# Altium footprint library PCB1.PcbLib: 50 footprints (part 2 of 4)
Each footprint in its own frame and in the unit in brackets; x right, y up, seen from the top. Pads: shape width x height; smd on the part's side, far side on the other; paste and mask are expansions set on the pad; w line width, h text height; cw(c..) or ccw(c..) is an arc to the next point about the centre after c.
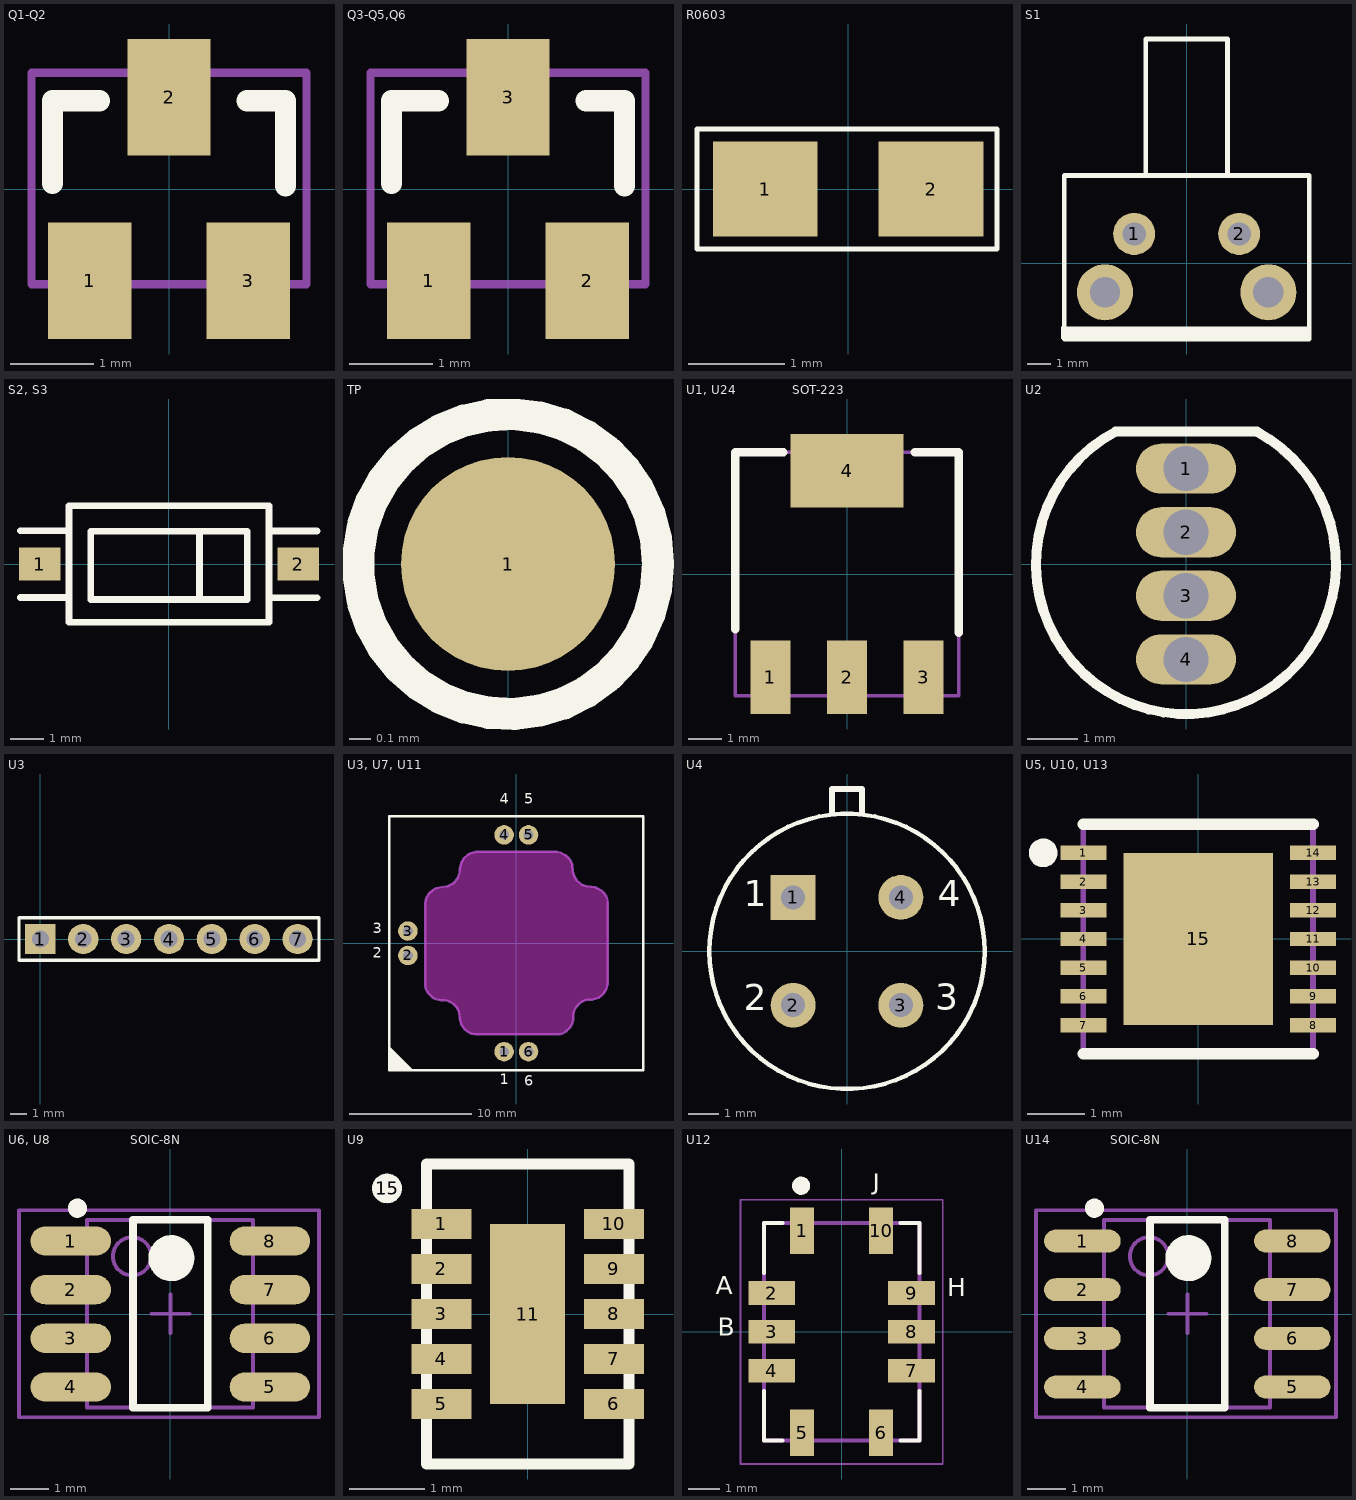
[diagram p1: the footprints below, top view; thin cyan lines are the x and y axes]

## Q1-Q2 [mm]
height 2.4
pads (3):
  rect 1x1.4 smd: 1(-0.95,-1.1) 2(0,1.1) 3(0.95,-1.1)
Top Overlay:
  lines w0.254: -1.397,0.067 -1.397,1.059 -0.833,1.059 ; 0.935,1.059 1.397,1.059 1.397,0.035
Mechanical 13:
  lines w0.1: -1.651,-1.143 -1.651,1.397 1.651,1.397 1.651,-1.143 -1.651,-1.143
3D body: height 1.55, standoff 0.45, extent -1.5,-1.25 1.5,1.25

## Q3-Q5,Q6 [mm]
height 2.4
pads (3):
  rect 1x1.4 smd: 1(-0.95,-1.1) 2(0.95,-1.1) 3(0,1.1)
Top Overlay:
  lines w0.254: -1.397,0.067 -1.397,1.059 -0.833,1.059 ; 0.935,1.059 1.397,1.059 1.397,0.035
Mechanical 13:
  lines w0.1: -1.651,-1.143 1.651,-1.143 1.651,1.397 -1.651,1.397 -1.651,-1.143
3D body: height 1.55, standoff 0.45, extent -1.5,-1.25 1.5,1.25

## R0603 [mil] "R0603"
height 94.49
pads (2):
  rect 43x39 smd: 1(-34,0) 2(34,0)
Top Overlay:
  lines w2: -62.01,-24.61 61.02,-24.61 61.02,24.61 -62.01,24.61 -62.01,-24.61
3D body: height 22.05, standoff 0, extent -33.46,-15.75 33.46,15.75

## S1 [mm]
height 2.4
pads (4):
  round 1.8 hole 1: 1(-2.25,1.25) 2(2.25,1.25)
  round 2.4 hole 1.3: ""(-3.5,-1.25) ""(3.5,-1.25)
Top Overlay:
  rectangle: -5.375,-3.242 5.316,-2.725
  lines w0.2: -1.75,3.75 -1.75,9.6 1.75,9.6 1.75,3.75 ; -5.25,-3.25 5.25,-3.25 5.25,3.75 -5.25,3.75 -5.25,-3.25

## S2, S3 [mm]
height 2.4
pads (2):
  rect 1.25x1 smd: 1(-3.875,0) 2(3.875,0)
Top Overlay:
  lines w0.2: -4.462,-1.004 -3.013,-1.004 ; -4.453,0.999 -3.004,0.999 ; 0.85,0.963 0.914,0.963 0.914,-0.989 ; 2.989,0.991 4.438,0.991 ; 2.998,-1.012 4.447,-1.012 ; -3,-1.75 3,-1.75 3,1.75 -3,1.75 -3,-1.75 ; -2.347,-1.067 2.346,-1.067 2.346,0.98 -2.347,0.98 -2.347,-1.067

## TP [mm]
pads (1):
  round 1 smd paste-1 mask+0.102: 1(0,0)
Top Overlay:
  circle w0.15: c0,0 r0.7

## U1, U24              SOT-223 [mm]
height 2.4
pads (4):
  rect 1.2x2.2 smd: 1(-2.3,-3.1) 2(0,-3.1) 3(2.3,-3.1)
  rect 3.4x2.2 smd: 4(0,3.1)
Top Overlay:
  lines w0.254: -3.35,-1.651 -3.35,3.65 -1.905,3.65 ; 2.032,3.65 3.35,3.65 3.35,-1.767
Mechanical 13:
  lines w0.1: -3.35,-3.65 3.35,-3.65 3.35,3.65 -3.35,3.65 -3.35,-3.65
3D body: height 1.9, standoff 0.22, extent -3.255,-3.474 3.245,3.486

## U2 [mm]
height 2.4
pads (4):
  oval 2x1 hole 0.9: 1(0,1.905) 2(0,0.635) 3(0,-0.635) 4(0,-1.905)
Top Overlay:
  lines w0.2: 1.422,2.641 cw(c0,0) -1.41,2.648 1.422,2.648

## U3 [mm]
pads (7):
  rect 1.8x1.8 hole 1: 1(0,0)
  round 1.8 hole 1: 2(2.54,0) 3(5.08,0) 4(7.62,0) 5(10.16,0) 6(12.7,0) 7(15.24,0)
Top Overlay:
  lines w0.2: -1.27,-1.27 -1.27,1.27 16.51,1.27 16.51,-1.27 -1.27,-1.27

## U3, U7, U11 [mm]
height 2.4
pads (6):
  round 1.6 hole 0.8: 1(-1,-8.89) 2(-8.89,-1) 3(-8.89,1) 4(-1,8.89) 5(1,8.89) 6(1,-8.89)
Top Overlay:
  region: -10.407,-10.408 -10.407,-8.425 -8.475,-10.357 -8.475,-10.407
  lines w0.2: -10.408,10.408 10.408,10.408 10.408,-10.407 -10.407,-10.408 -10.408,10.408
  text "5" at 0.65,11.15 h1.5
  text "4" at -1.35,11.15 h1.5
  text "1" at -1.375,-11.85 h1.5
  text "6" at 0.65,-11.95 h1.5
  text "2" at -11.775,-1.475 h1.5
  text "3" at -11.775,0.525 h1.5
Keep-Out Layer:
  board cut-out: -7.483,3.165 -7.483,3.308 -7.427,3.588 -7.318,3.851 -7.16,4.089 -6.958,4.291 -6.72,4.449 -6.457,4.558 -6.177,4.614 -6.034,4.614 -5.896,4.621 -5.626,4.675 -5.371,4.78 -5.142,4.933 -4.947,5.128 -4.794,5.357 -4.689,5.612 -4.635,5.882 -4.628,6.02 -4.628,6.049 -4.628,6.192 -4.572,6.472 -4.463,6.735 -4.305,6.973 -4.103,7.175 -3.865,7.333 -3.602,7.442 -3.322,7.498 -3.179,7.498 3.17,7.498 3.314,7.498 3.597,7.442 3.863,7.331 4.103,7.171 4.307,6.967 4.467,6.727 4.578,6.461 4.634,6.178 4.634,6.034 4.641,5.898 4.694,5.63 4.798,5.378 4.95,5.152 5.143,4.959 5.369,4.807 5.621,4.703 5.889,4.65 6.025,4.643 6.069,4.643 6.209,4.643 6.483,4.588 6.742,4.481 6.974,4.326 7.172,4.128 7.327,3.896 7.434,3.637 7.489,3.363 7.489,3.223 7.489,-3.199 7.489,-3.339 7.434,-3.613 7.327,-3.872 7.172,-4.104 6.974,-4.302 6.742,-4.457 6.483,-4.564 6.209,-4.619 6.069,-4.619 5.931,-4.626 5.661,-4.68 5.406,-4.785 5.177,-4.938 4.982,-5.133 4.829,-5.362 4.724,-5.617 4.67,-5.887 4.663,-6.025 4.663,-6.068 4.663,-6.206 4.609,-6.478 4.503,-6.734 4.349,-6.964 4.153,-7.16 3.923,-7.314 3.667,-7.42 3.395,-7.474 3.257,-7.474 -3.236,-7.474 -3.374,-7.474 -3.646,-7.42 -3.902,-7.314 -4.132,-7.16 -4.328,-6.964 -4.482,-6.734 -4.588,-6.478 -4.642,-6.206 -4.642,-6.068 -4.649,-5.93 -4.703,-5.66 -4.808,-5.405 -4.961,-5.176 -5.156,-4.981 -5.385,-4.828 -5.64,-4.723 -5.91,-4.669 -6.048,-4.662 -6.062,-4.662 -6.202,-4.662 -6.476,-4.607 -6.735,-4.5 -6.968,-4.345 -7.166,-4.147 -7.321,-3.914 -7.428,-3.655 -7.483,-3.381 -7.483,-3.241
Keep-Out Layer:
  region: -7.483,3.165 -7.483,3.308 -7.427,3.588 -7.318,3.851 -7.16,4.089 -6.958,4.291 -6.72,4.449 -6.457,4.558 -6.177,4.614 -6.034,4.614 -5.896,4.621 -5.626,4.675 -5.371,4.78 -5.142,4.933 -4.947,5.128 -4.794,5.357 -4.689,5.612 -4.635,5.882 -4.628,6.02 -4.628,6.049 -4.628,6.192 -4.572,6.472 -4.463,6.735 -4.305,6.973 -4.103,7.175 -3.865,7.333 -3.602,7.442 -3.322,7.498 -3.179,7.498 3.17,7.498 3.314,7.498 3.597,7.442 3.863,7.331 4.103,7.171 4.307,6.967 4.467,6.727 4.578,6.461 4.634,6.178 4.634,6.034 4.641,5.898 4.694,5.63 4.798,5.378 4.95,5.152 5.143,4.959 5.369,4.807 5.621,4.703 5.889,4.65 6.025,4.643 6.069,4.643 6.209,4.643 6.483,4.588 6.742,4.481 6.974,4.326 7.172,4.128 7.327,3.896 7.434,3.637 7.489,3.363 7.489,3.223 7.489,-3.199 7.489,-3.339 7.434,-3.613 7.327,-3.872 7.172,-4.104 6.974,-4.302 6.742,-4.457 6.483,-4.564 6.209,-4.619 6.069,-4.619 5.931,-4.626 5.661,-4.68 5.406,-4.785 5.177,-4.938 4.982,-5.133 4.829,-5.362 4.724,-5.617 4.67,-5.887 4.663,-6.025 4.663,-6.068 4.663,-6.206 4.609,-6.478 4.503,-6.734 4.349,-6.964 4.153,-7.16 3.923,-7.314 3.667,-7.42 3.395,-7.474 3.257,-7.474 -3.236,-7.474 -3.374,-7.474 -3.646,-7.42 -3.902,-7.314 -4.132,-7.16 -4.328,-6.964 -4.482,-6.734 -4.588,-6.478 -4.642,-6.206 -4.642,-6.068 -4.649,-5.93 -4.703,-5.66 -4.808,-5.405 -4.961,-5.176 -5.156,-4.981 -5.385,-4.828 -5.64,-4.723 -5.91,-4.669 -6.048,-4.662 -6.062,-4.662 -6.202,-4.662 -6.476,-4.607 -6.735,-4.5 -6.968,-4.345 -7.166,-4.147 -7.321,-3.914 -7.428,-3.655 -7.483,-3.381 -7.483,-3.241
Mechanical 1:
  lines w0.2: 5.931,-4.626 6.209,-4.619 6.483,-4.564 6.742,-4.457 6.974,-4.302 7.172,-4.104 7.327,-3.872 7.434,-3.613 7.462,-3.476 7.489,-3.339 7.489,3.363 ccw(c6.407,3.363) 7.172,4.128 ; 6,-4.622 ccw(c6,-5.847) 5.134,-4.981 5.08,-5.036 ccw(c6.085,-6.041) 4.663,-6.041 4.663,-6.137 cw(c3.424,-6.137) 4.3,-7.013 4.153,-7.16 cw(c3.395,-6.402) 3.395,-7.474 -3.374,-7.474 -3.646,-7.42 -3.902,-7.314 -4.23,-7.062 -4.482,-6.734 -4.615,-6.342 -4.642,-6.137 -4.703,-5.66 -4.808,-5.405 -4.961,-5.176 -5.156,-4.981 -5.385,-4.828 -5.64,-4.723 -5.91,-4.669 -6.202,-4.662 cw(c-6.202,-3.579) -6.968,-4.345 -7.166,-4.147 cw(c-6.4,-3.381) -7.483,-3.381 -7.483,3.165 -7.483,3.308 -7.373,3.72 -7.16,4.089 -6.839,4.37 -6.589,4.504 -6.105,4.614 -5.626,4.675 -5.142,4.933 -4.794,5.357 -4.662,5.747 -4.628,6.049 -4.518,6.604 -4.305,6.973 -3.984,7.254 -3.734,7.388 -3.322,7.498 -1.225,7.5 2.375,7.498 3.314,7.498 3.597,7.442 4.038,7.2 4.205,7.069 4.307,6.967 4.467,6.727 4.578,6.461 4.641,5.898 4.746,5.504 4.95,5.152 5.369,4.807 5.755,4.676 6.483,4.588 6.974,4.326 7.172,4.128 ; 7.172,4.128 7.172,4.128
  text "Board" at -3.9,0.575 h3
  text "Cut out" at -4.642,-2.15 h3

## U4 [mm]
height 2.4
pads (4):
  rect 1.5x1.5 hole 0.8: 1(-1.8,1.8)
  round 1.5 hole 0.8: 2(-1.8,-1.8) 3(1.8,-1.8) 4(1.8,1.8)
Top Overlay:
  circle w0.15: c0,0 r4.6
  lines w0.2: -0.5,4.625 -0.5,5.425 0.5,5.425 0.5,4.625
  text "1" at -3.453,1.2 h1.5
  text "2" at -3.453,-2.268 h1.5
  text "3" at 2.95,-2.25 h1.5
  text "4" at 3.025,1.2 h1.5

## U5, U10, U13 [mm]
pads (15):
  rect 0.8x0.25 smd: 1(-2,1.5) 2(-2,1) 3(-2,0.5) 4(-2,0) 5(-2,-0.5) 6(-2,-1) 7(-2,-1.5) 8(2,-1.5) 9(2,-1) 10(2,-0.5) 11(2,0) 12(2,0.5) 13(2,1) 14(2,1.5)
  rect 2.6x3 smd: 15(0,0)
Top Overlay:
  circle w0.25: c-2.7,1.5 r0.125
  lines w0.2: -2,-2 2,-2 ; -2,2 2,2
Mechanical 13:
  lines w0.1: -2,-2 -2,2 2,2 2,-2 -2,-2

## U6, U8                    SOIC-8N [mm]
height 1.75
pads (8):
  oval 2.1x0.762 smd: 1(-2.6,1.905) 2(-2.6,0.635) 3(-2.6,-0.635) 4(-2.6,-1.905) 5(2.6,-1.905) 6(2.6,-0.635) 7(2.6,0.635) 8(2.6,1.905)
Top Overlay:
  circle w0.6: c0.027,1.456 r0.3
  circle w0.25: c-2.423,2.761 r0.125
  lines w0.2: -0.973,-2.444 0.977,-2.444 0.977,2.456 -0.973,2.456 -0.973,-2.444
Mechanical 13:
  circle w0.1: c-0.998,1.506 r0.5
  lines w0.1: -2.174,-2.444 2.16,-2.444 2.16,2.456 -2.174,2.456 -2.174,-2.444
Mechanical 15:
  lines w0.1: -0.498,0.006 0.502,0.006 ; 0.002,-0.494 0.002,0.506 ; -3.949,-2.694 3.881,-2.694 3.881,2.706 -3.949,2.706 -3.949,-2.694
3D body: height 1.7, standoff 0.1, extent -2.995,-2.45 2.995,2.45

## U9 [mm]
height 2.4
pads (12):
  rect 0.8x0.4 smd mask+0.07: 1(-1.15,1.2) 2(-1.15,0.6) 3(-1.15,0) 4(-1.15,-0.6) 5(-1.15,-1.2) 6(1.15,-1.2) 7(1.15,-0.6) 8(1.15,0) 9(1.15,0.6) 10(1.15,1.2)
  rect 1x2.4 smd mask+0.07: 11(0,0)
  round 0.4 on Top Overlay: 15(-1.875,1.675)
Top Overlay:
  lines w0.15: -1.35,-2 -1.35,2 1.35,2 1.35,-2 -1.35,-2

## U12 [mm]
pads (10):
  rect 0.762x1.5 smd: 1(-1.27,3.25) 5(-1.27,-3.25) 6(1.27,-3.25) 10(1.27,3.25)
  rect 1.5x0.762 smd: 2(-2.25,1.25) 3(-2.25,0) 4(-2.25,-1.25) 7(2.25,-1.25) 8(2.25,0) 9(2.25,1.25)
Top Overlay:
  circle w0.3: c-1.3,4.7 r0.141
  lines w0.127: -2.5,-1.9 -2.5,-3.5 -1.9,-3.5 ; -2.5,1.9 -2.5,3.5 -1.9,3.5 ; 1.9,-3.5 2.5,-3.5 2.5,-1.9 ; 1.9,3.5 2.5,3.5 2.5,1.9
  text "A" at -4.05,1.025 h1
  text "B" at -3.975,-0.325 h1
  text "J" at 1,4.4 h1
  text "H" at 3.4,0.95 h1
Mechanical 4:
  lines w0.127: -2.5,-3.5 2.5,-3.5 ; -2.5,-3.5 -2.5,3.5 ; -2.5,-3.5 2.5,-3.5 ; -2.5,-3.5 -2.5,3.5 ; -2.5,3.5 2.5,3.5 ; -2.5,3.5 2.5,3.5 ; 2.5,-3.5 2.5,3.5 ; 2.5,-3.5 2.5,3.5
Mechanical 16:
  lines w0.05: -3.25,-4.25 3.25,-4.25 3.25,4.25 -3.25,4.25 -3.25,-4.25

## U14               SOIC-8N [mm]
height 1.75
pads (8):
  oval 2x0.6 smd: 1(-2.74,1.905) 2(-2.74,0.635) 3(-2.74,-0.635) 4(-2.74,-1.905) 5(2.74,-1.905) 6(2.74,-0.635) 7(2.74,0.635) 8(2.74,1.905)
Top Overlay:
  circle w0.25: c-2.423,2.761 r0.125
  circle w0.6: c0.027,1.456 r0.3
  lines w0.2: -0.973,-2.444 -0.973,2.456 0.977,2.456 0.977,-2.444 -0.973,-2.444
Mechanical 13:
  circle w0.1: c-0.998,1.506 r0.5
  lines w0.1: -2.174,-2.444 -2.174,2.456 2.16,2.456 2.16,-2.444 -2.174,-2.444
Mechanical 15:
  lines w0.1: -0.498,0.006 0.502,0.006 ; 0.002,-0.494 0.002,0.506 ; -3.949,-2.694 -3.949,2.706 3.881,2.706 3.881,-2.694 -3.949,-2.694
3D body: height 1.7, standoff 0.1, extent -2.995,-2.45 2.995,2.45